# EAGLE library part 3600BL14M050 (library mr_radar)
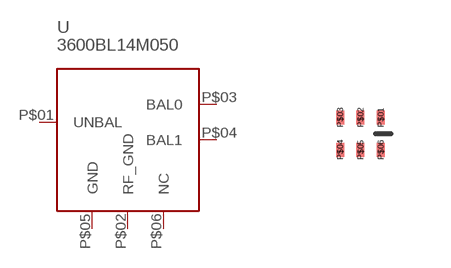
[diagram p2: symbol with the pads of 3600BL14M050; footprint 3600BL14M050]

Designator prefix -

## 3600BL14M050  [3600BL14M050]
P$01  UNBAL
P$02  RF_GND
P$03  BAL0
P$04  BAL1
P$05  GND
P$06  NC

## Footprint 3600BL14M050 (pad centres in mm)
smd 0.203 x 0.356: P$01 0.508,0.406; P$02 0,0.406; P$03 -0.508,0.406; P$04 -0.508,-0.406; P$05 0,-0.406; P$06 0.508,-0.406